# Altium footprint library zulu_a7.PcbLib: 41 footprints (part 3 of 3)
Each footprint in its own frame and in the unit in brackets; x right, y up, seen from the top. Pads: shape width x height; smd on the part's side, far side on the other; paste and mask are expansions set on the pad; w line width, h text height; cw(c..) or ccw(c..) is an arc to the next point about the centre after c.
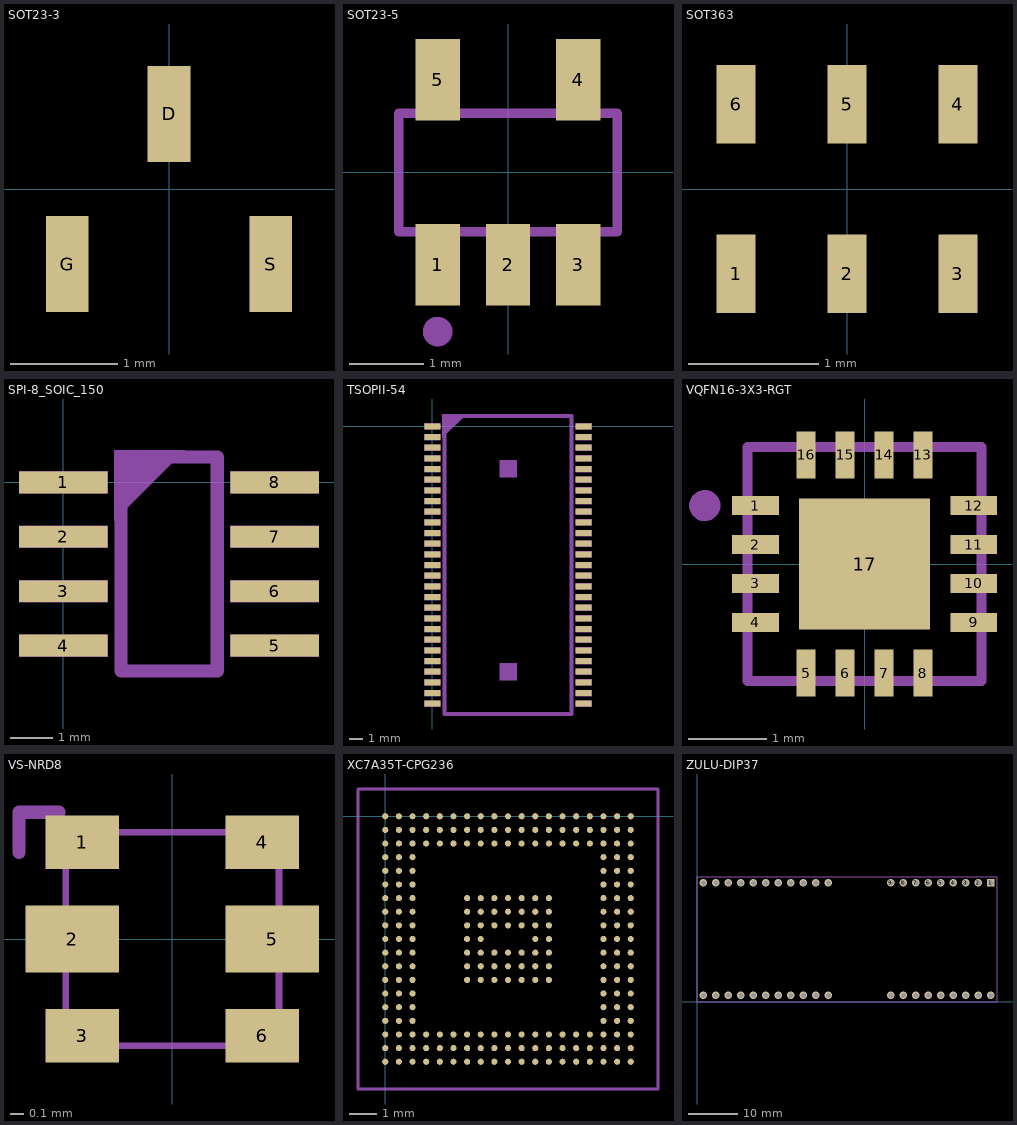
[diagram p2: the footprints below, top view; thin cyan lines are the x and y axes]

## SOT23-3 [mm] "SOT23-3"
pads (3):
  rect 0.4x0.9 smd: D(0,0.7) G(-0.95,-0.7) S(0.95,-0.7)

## SOT23-5 [mm] "SOT23-5"
pads (5):
  rect 0.6x1.1 smd: 1(-0.95,-1.25) 2(0,-1.25) 3(0.95,-1.25) 4(0.95,1.25) 5(-0.95,1.25)
Mechanical 3:
  lines w0.127: -1.475,-0.8 1.475,-0.8 1.475,0.8 -1.475,0.8 -1.475,-0.8
Mechanical 7:
  circle w0.2: c-0.95,-2.15 r0.1
  lines w0.127: -1.475,-0.8 -1.475,0.8 ; -0.437,0.8 0.437,0.8 ; 1.475,-0.8 1.475,0.8

## SOT363 [mm] "SOT363"
pads (6):
  rect 0.3x0.6 smd: 1(-0.85,-0.65) 2(0,-0.65) 3(0.85,-0.65) 4(0.85,0.65) 5(0,0.65) 6(-0.85,0.65)

## SPI-8_SOIC_150 [mil] "SPI-8_SOIC_150"
pads (8):
  rect 81.5x20.08 smd: 1(0,0) 2(0,-50) 3(0,-100) 4(0,-150) 5(194.09,-150) 6(194.09,-100) 7(194.09,-50) 8(194.09,0)
Mechanical 3:
  region: -40.75,-10.04 -40.75,10.04 40.75,10.04 40.75,-10.04
  region: -40.75,-60.04 -40.75,-39.96 40.75,-39.96 40.75,-60.04
  region: -40.75,-110.04 -40.75,-89.96 40.75,-89.96 40.75,-110.04
  region: -40.75,-160.04 -40.75,-139.96 40.75,-139.96 40.75,-160.04
  region: 153.35,-160.04 153.35,-139.96 234.84,-139.96 234.84,-160.04
  region: 153.35,-110.04 153.35,-89.96 234.84,-89.96 234.84,-110.04
  region: 153.35,-60.04 153.35,-39.96 234.84,-39.96 234.84,-60.04
  region: 153.35,-10.04 153.35,10.04 234.84,10.04 234.84,-10.04
Mechanical 7:
  region: 46.75,29.43 46.75,-35.36 111.54,29.43
  lines w12: 52.75,-173.43 52.75,23.43 141.35,23.43 141.35,-173.43 52.75,-173.43

## TSOPII-54 [mm] "TSOPII-54"
pads (54):
  rect 1.2x0.45 smd: 1(0,0) 2(0,-0.8) 3(0,-1.6) 4(0,-2.4) 5(0,-3.2) 6(0,-4) 7(0,-4.8) 8(0,-5.6) 9(0,-6.4) 10(0,-7.2) 11(0,-8) 12(0,-8.8) 13(0,-9.6) 14(0,-10.4) 15(0,-11.2) 16(0,-12) 17(0,-12.8) 18(0,-13.6) 19(0,-14.4) 20(0,-15.2) 21(0,-16) 22(0,-16.8) 23(0,-17.6) 24(0,-18.4) 25(0,-19.2) 26(0,-20) 27(0,-20.8) 28(11.36,-20.8) 29(11.36,-20) 30(11.36,-19.2) 31(11.36,-18.4) 32(11.36,-17.6) 33(11.36,-16.8) 34(11.36,-16) 35(11.36,-15.2) 36(11.36,-14.4) 37(11.36,-13.6) 38(11.36,-12.8) 39(11.36,-12) 40(11.36,-11.2) 41(11.36,-10.4) 42(11.36,-9.6) 43(11.36,-8.8) 44(11.36,-8) 45(11.36,-7.2) 46(11.36,-6.4) 47(11.36,-5.6) 48(11.36,-4.8) 49(11.36,-4) 50(11.36,-3.2) 51(11.36,-2.4) 52(11.36,-1.6) 53(11.36,-0.8) 54(11.36,0)
Mechanical 4:
  drawing of 108 lines, arcs and shapes, not listed
Mechanical 8:
  region: 0.752,0.927 0.752,-0.863 2.543,0.927
  region: 0.752,0.927 0.752,-0.863 2.543,0.927
  lines w0.305: 0.905,-21.575 0.905,0.775 10.455,0.775 10.455,-21.575 0.905,-21.575
Bottom Glue Points:
  region: 5.08,-3.81 5.08,-2.54 6.35,-2.54 6.35,-3.81
  region: 5.08,-19.05 5.08,-17.78 6.35,-17.78 6.35,-19.05

## VQFN16-3X3-RGT [mm] "VQFN16-3X3-RGT"
pads (17):
  rect 0.6x0.24 smd: 1(-1.4,0.75) 2(-1.4,0.25) 3(-1.4,-0.25) 4(-1.4,-0.75) 9(1.4,-0.75) 10(1.4,-0.25) 11(1.4,0.25) 12(1.4,0.75)
  rect 0.24x0.6 smd: 5(-0.75,-1.4) 6(-0.25,-1.4) 7(0.25,-1.4) 8(0.75,-1.4) 13(0.75,1.4) 14(0.25,1.4) 15(-0.25,1.4) 16(-0.75,1.4)
  rect 1.68x1.68 smd: 17(0,0)
Mechanical 3:
  lines w0.127: -1.5,-1.5 1.5,-1.5 1.5,1.5 -1.5,1.5 -1.5,-1.5
Mechanical 7:
  circle w0.2: c-2.05,0.75 r0.1
  lines w0.127: -1.5,-1.084 -1.5,-1.5 -1.084,-1.5 ; -1.5,1.084 -1.5,1.5 -1.084,1.5 ; 1.084,-1.5 1.5,-1.5 1.5,-1.084 ; 1.084,1.5 1.5,1.5 1.5,1.084

## VS-NRD8 [mm] "VS-NRD8"
pads (6):
  rect 0.55x0.4 smd: 1(-0.675,0.725) 3(-0.675,-0.725) 4(0.675,0.725) 6(0.675,-0.725)
  rect 0.7x0.5 smd: 2(-0.75,0) 5(0.75,0)
Mechanical 3:
  lines w0.05: -0.8,-0.8 0.8,-0.8 0.8,0.8 -0.8,0.8 -0.8,-0.8
Mechanical 7:
  lines w0.1: -1.15,0.65 -1.15,0.95 -0.85,0.95

## XC7A35T-CPG236 [mm] "XC7A35T-CPG236"
pads (238):
  rrect100% 0.225x0.225 smd: A1(0,0) A2(0.5,0) A3(1,0) A4(1.5,0) A5(2,0) A6(2.5,0) A7(3,0) A8(3.5,0) A9(4,0) A10(4.5,0) A11(5,0) A12(5.5,0) A13(6,0) A14(6.5,0) A15(7,0) A16(7.5,0) A17(8,0) A18(8.5,0) A19(9,0) B1(0,-0.5) B2(0.5,-0.5) B3(1,-0.5) B4(1.5,-0.5) B5(2,-0.5) B6(2.5,-0.5) B7(3,-0.5) B8(3.5,-0.5) B9(4,-0.5) B10(4.5,-0.5) B11(5,-0.5) B12(5.5,-0.5) B13(6,-0.5) B14(6.5,-0.5) B15(7,-0.5) B16(7.5,-0.5) B17(8,-0.5) B18(8.5,-0.5) B19(9,-0.5) C1(0,-1) C2(0.5,-1) C3(1,-1) C4(1.5,-1) C5(2,-1) C6(2.5,-1) C7(3,-1) C8(3.5,-1) C9(4,-1) C10(4.5,-1) C11(5,-1) C12(5.5,-1) C13(6,-1) C14(6.5,-1) C15(7,-1) C16(7.5,-1) C17(8,-1) C18(8.5,-1) C19(9,-1) D1(0,-1.5) D2(0.5,-1.5) D3(1,-1.5) D17(8,-1.5) D18(8.5,-1.5) D19(9,-1.5) E1(0,-2) E2(0.5,-2) E3(1,-2) E17(8,-2) E18(8.5,-2) E19(9,-2) F1(0,-2.5) F2(0.5,-2.5) F3(1,-2.5) F17(8,-2.5) F18(8.5,-2.5) F19(9,-2.5) G1(0,-3) G2(0.5,-3) G3(1,-3) G7(3,-3) G8(3.5,-3) G9(4,-3) G10(4.5,-3) G11(5,-3) G12(5.5,-3) G13(6,-3) G17(8,-3) G18(8.5,-3) G19(9,-3) H1(0,-3.5) H2(0.5,-3.5) H3(1,-3.5) H7(3,-3.5) H8(3.5,-3.5) H9(4,-3.5) H10(4.5,-3.5) H11(5,-3.5) H12(5.5,-3.5) H13(6,-3.5) H17(8,-3.5) H18(8.5,-3.5) H19(9,-3.5) J1(0,-4) J2(0.5,-4) J3(1,-4) J7(3,-4) J8(3.5,-4) J9(4,-4) J10(4.5,-4) J11(5,-4) J12(5.5,-4) J13(6,-4) J17(8,-4) J18(8.5,-4) J19(9,-4) K1(0,-4.5) K2(0.5,-4.5) K3(1,-4.5) K7(3,-4.5) K8(3.5,-4.5) K12(5.5,-4.5) K13(6,-4.5) K17(8,-4.5) K18(8.5,-4.5) K19(9,-4.5) L1(0,-5) L2(0.5,-5) L3(1,-5) L7(3,-5) L8(3.5,-5) L9(4,-5) L10(4.5,-5) L11(5,-5) L12(5.5,-5) L13(6,-5) L17(8,-5) L18(8.5,-5) L19(9,-5) M1(0,-5.5) M2(0.5,-5.5) M3(1,-5.5) M7(3,-5.5) M8(3.5,-5.5) M9(4,-5.5) M10(4.5,-5.5) M11(5,-5.5) M12(5.5,-5.5) M13(6,-5.5) M17(8,-5.5) M18(8.5,-5.5) M19(9,-5.5) N1(0,-6) N2(0.5,-6) N3(1,-6) N7(3,-6) N8(3.5,-6) N9(4,-6) N10(4.5,-6) N11(5,-6) N12(5.5,-6) N13(6,-6) N17(8,-6) N18(8.5,-6) N19(9,-6) P1(0,-6.5) P2(0.5,-6.5) P3(1,-6.5) P17(8,-6.5) P18(8.5,-6.5) P19(9,-6.5) R1(0,-7) R2(0.5,-7) R3(1,-7) R17(8,-7) R18(8.5,-7) R19(9,-7) T1(0,-7.5) T2(0.5,-7.5) T3(1,-7.5) T17(8,-7.5) T18(8.5,-7.5) T19(9,-7.5) U1(0,-8) U2(0.5,-8) U3(1,-8) U4(1.5,-8) U5(2,-8) U6(2.5,-8) U7(3,-8) U8(3.5,-8) U9(4,-8) U10(4.5,-8) U11(5,-8) U12(5.5,-8) U13(6,-8) U14(6.5,-8) U15(7,-8) U16(7.5,-8) U17(8,-8) U18(8.5,-8) U19(9,-8) V1(0,-8.5) V2(0.5,-8.5) V3(1,-8.5) V4(1.5,-8.5) V5(2,-8.5) V6(2.5,-8.5) V7(3,-8.5) V8(3.5,-8.5) V9(4,-8.5) V10(4.5,-8.5) V11(5,-8.5) V12(5.5,-8.5) V13(6,-8.5) V14(6.5,-8.5) V15(7,-8.5) V16(7.5,-8.5) V17(8,-8.5) V18(8.5,-8.5) V19(9,-8.5) W1(0,-9) W2(0.5,-9) W3(1,-9) W4(1.5,-9) W5(2,-9) W6(2.5,-9) W7(3,-9) W8(3.5,-9) W9(4,-9) W10(4.5,-9) W11(5,-9) W12(5.5,-9) W13(6,-9) W14(6.5,-9) W15(7,-9) W16(7.5,-9) W17(8,-9) W18(8.5,-9) W19(9,-9)
Mechanical 7:
  lines w0.1: -1,-10 10,-10 10,1 -1,1 -1,-10

## ZULU-DIP37 [mil] "ZULU-DIP37"
pads (40):
  rect 60x60 / inner round 55.43 / far side rect 60x60 hole 40: 1(2350,950)
  round 60 hole 40: 2(2250,950) 3(2150,950) 4(2050,950) 5(1950,950) 6(1850,950) 7(1750,950) 8(1650,950) 9(1550,950) 10(1050,950) 11(950,950) 12(850,950) 13(750,950) 14(650,950) 15(550,950) 16(450,950) 17(350,950) 18(250,950) 19(150,950) 20(50,950) 21(2350,50) 22(2250,50) 23(2150,50) 24(2050,50) 25(1950,50) 26(1850,50) 27(1750,50) 28(1650,50) 29(1550,50) 30(1050,50) 31(950,50) 32(850,50) 33(750,50) 34(650,50) 35(550,50) 36(450,50) 37(350,50) 38(250,50) 39(150,50) 40(50,50)
Mechanical 3:
  drawing of 40 lines, arcs and shapes, not listed
Mechanical 7:
  lines w6: 0,0 2400,0 2400,1000 0,1000 0,0